# Altium integrated library SKC 6812RGBX.IntLib: 1 symbol
Pins are listed as number, name and electrical type; pins without a type are passive.

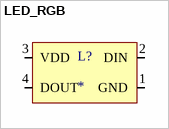
[diagram p0: symbol LED_RGB]

## LED_RGB
designator L?
footprint SKC 6812RGBX
pins: 1 GND, 2 DIN, 3 VDD, 4 DOUT